# Altium schematic symbol library WCAP-FTX2_P15_CS.SchLib: 1 symbol
Pins are listed as number, name and electrical type; pins without a type are passive.

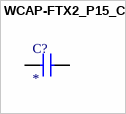
[diagram p0: symbol WCAP-FTX2_P15_CS]

## WCAP-FTX2_P15_CS
designator C?
WCAP-FTX2 Film Capacitor 100nF 275Vac ¦ Wurth Electronics 890324025017CS; MF: WÃ¼rth Elektronik; SnapEDA_Link: https://www.snapeda.com/parts/890324025017CS/W%25C3%25BCrth+Elektronik+Midcom/view-part/?ref=snap; Package: Radial Wurth Electronics; Value: *; MP: 890324025017CS; Check_prices: https://www.snapeda.com/parts/890324025017CS/W%25C3%25BCrth+Elektronik+Midcom/view-part/?ref=eda
footprint WCAP-FTX2_P15L18W6H12_CS
pins: 1, 2